# EAGLE library part I__4522 (library ..SMD)
Prog. BCD divide by n COUNTER
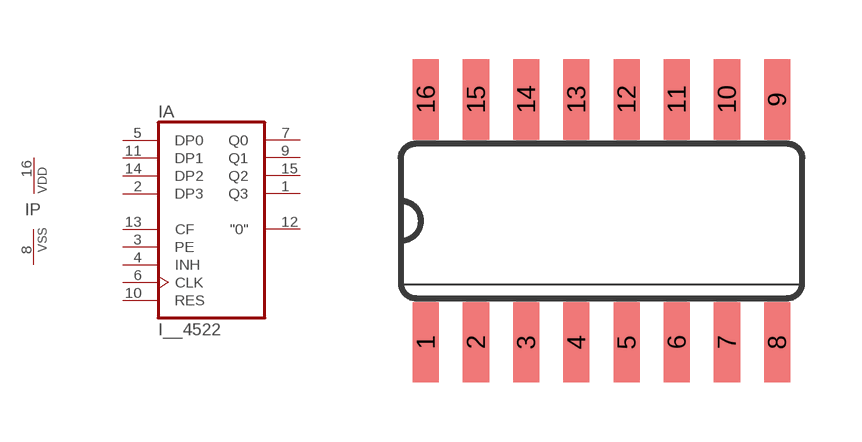
[diagram p109: symbol with the pads of SO16; footprint SO16]

Designator prefix I; gates A=4522 P=PWRN

## I__4522D  [SO16]
1  A:Q3  out
2  A:DP3  in
3  A:PE  in
4  A:INH  in
5  A:DP0  in
6  A:CLK  in
7  A:Q0  out
8  P:VSS  pwr
9  A:Q1  out
10  A:RES  in
11  A:DP1  in
12  A:"0"  out
13  A:CF  in
14  A:DP2  in
15  A:Q2  out
16  P:VDD  pwr

## Footprint SO16 (pad centres in mm)
Small Outline Package 16
smd 0.66 x 2.032: 1 -4.445,-3.073; 2 -3.175,-3.073; 3 -1.905,-3.073; 4 -0.635,-3.073; 5 0.635,-3.073; 6 1.905,-3.073; 7 3.175,-3.073; 8 4.445,-3.073; 9 4.445,3.073; 10 3.175,3.073; 11 1.905,3.073; 12 0.635,3.073; 13 -0.635,3.073; 14 -1.905,3.073; 15 -3.175,3.073; 16 -4.445,3.073